# Altium footprint library 弹簧端子.PcbLib: 9 footprints
Each footprint in its own frame and in the unit in brackets; x right, y up, seen from the top. Pads: shape width x height; smd on the part's side, far side on the other; paste and mask are expansions set on the pad; w line width, h text height; cw(c..) or ccw(c..) is an arc to the next point about the centre after c.
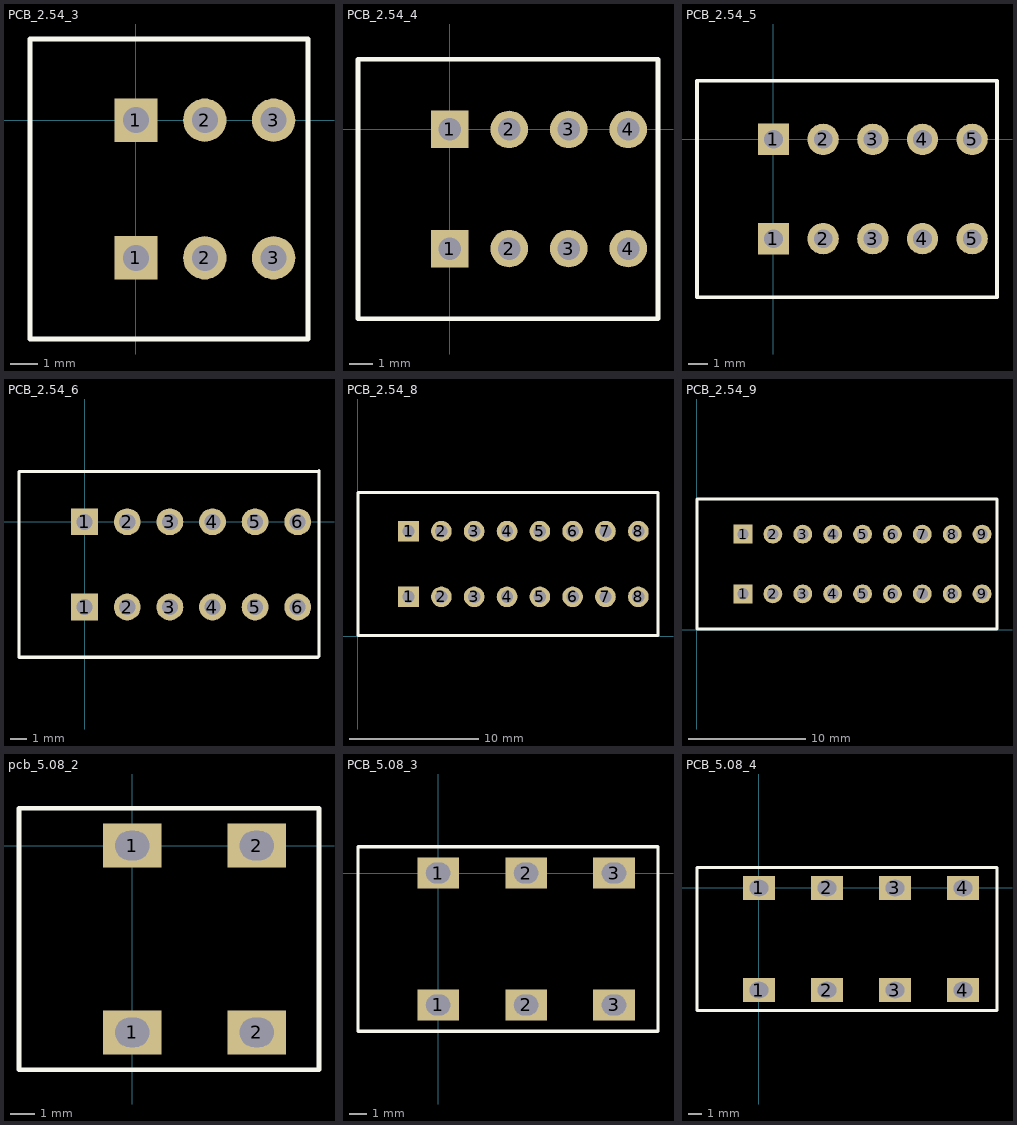
[diagram p0: the footprints below, top view; thin cyan lines are the x and y axes]

## PCB_2.54_3 [mm]
pads (6):
  rect 1.6x1.6 hole 0.96: 1(0,-5.08) 1(0,0)
  round 1.6 hole 0.96: 2(2.54,-5.08) 2(2.54,0) 3(5.08,-5.08) 3(5.08,0)
Top Overlay:
  lines w0.2: -3.912,-8.077 6.35,-8.077 6.35,2.997 -3.912,2.997 -3.912,-8.077

## PCB_2.54_4 [mm]
pads (8):
  rect 1.6x1.6 hole 0.96: 1(0,-5.08) 1(0,0)
  round 1.6 hole 0.96: 2(2.54,-5.08) 2(2.54,0) 3(5.08,-5.08) 3(5.08,0) 4(7.62,-5.08) 4(7.62,0)
Top Overlay:
  lines w0.2: 8.89,2.946 8.89,-8.077 -3.912,-8.077 -3.912,2.997 8.89,2.997

## PCB_2.54_5 [mm]
pads (10):
  rect 1.6x1.6 hole 0.96: 1(0,-5.08) 1(0,0)
  round 1.6 hole 0.96: 2(2.54,-5.08) 2(2.54,0) 3(5.08,-5.08) 3(5.08,0) 4(7.62,-5.08) 4(7.62,0) 5(10.16,-5.08) 5(10.16,0)
Top Overlay:
  lines w0.2: -3.912,-8.077 11.43,-8.077 11.43,2.997 -3.912,2.997 -3.912,-8.077

## PCB_2.54_6 [mm]
pads (12):
  rect 1.6x1.6 hole 0.96: 1(0,-5.08) 1(0,0)
  round 1.6 hole 0.96: 2(2.54,-5.08) 2(2.54,0) 3(5.08,-5.08) 3(5.08,0) 4(7.62,-5.08) 4(7.62,0) 5(10.16,-5.08) 5(10.16,0) 6(12.7,-5.08) 6(12.7,0)
Top Overlay:
  lines w0.2: 13.894,-8.077 11.43,-8.077 -3.912,-8.077 -3.912,2.997 11.43,2.997 13.894,2.997 ; 13.97,-8.026 13.97,3.048

## PCB_2.54_8 [mm]
pads (16):
  rect 1.6x1.6 hole 0.96: 1(3.937,3.048) 1(3.937,8.128)
  round 1.6 hole 0.96: 2(6.477,3.048) 2(6.477,8.128) 3(9.017,3.048) 3(9.017,8.128) 4(11.557,3.048) 4(11.557,8.128) 5(14.097,3.048) 5(14.097,8.128) 6(16.637,3.048) 6(16.637,8.128) 7(19.177,3.048) 7(19.177,8.128) 8(21.717,3.048) 8(21.717,8.128)
Top Overlay:
  lines w0.254: 0.025,0.051 15.367,0.051 23.241,0.051 23.241,11.125 0.025,11.125 0.025,0.051

## PCB_2.54_9 [mm]
pads (18):
  rect 1.6x1.6 hole 0.96: 1(3.937,3.048) 1(3.937,8.128)
  round 1.6 hole 0.96: 2(6.477,3.048) 2(6.477,8.128) 3(9.017,3.048) 3(9.017,8.128) 4(11.557,3.048) 4(11.557,8.128) 5(14.097,3.048) 5(14.097,8.128) 6(16.637,3.048) 6(16.637,8.128) 7(19.177,3.048) 7(19.177,8.128) 8(21.717,3.048) 8(21.717,8.128) 9(24.257,3.048) 9(24.257,8.128)
Top Overlay:
  lines w0.254: 0.025,0.051 15.367,0.051 25.527,0.051 25.527,11.125 0.025,11.125 0.025,0.051

## pcb_5.08_2 [mm]
pads (4):
  rect 2.4x1.8 hole 1.2 slot 1.4 at 0 deg: 1(0,-7.62) 1(0,0) 2(5.08,-7.62) 2(5.08,0)
Top Overlay:
  lines w0.2: -4.623,-9.144 -4.623,1.524 7.62,1.524 7.62,-9.144 -4.623,-9.144

## PCB_5.08_3 [mm]
pads (6):
  rect 2.4x1.8 hole 1.2 slot 1.4 at 0 deg: 1(0,-7.62) 1(0,0) 2(5.08,-7.62) 2(5.08,0) 3(10.16,-7.62) 3(10.16,0)
Top Overlay:
  lines w0.2: -4.623,-9.144 -4.623,1.524 12.7,1.524 12.7,-9.144 -4.623,-9.144

## PCB_5.08_4 [mm]
pads (8):
  rect 2.4x1.8 hole 1.2 slot 1.4 at 0 deg: 1(0,-7.62) 1(0,0) 2(5.08,-7.62) 2(5.08,0) 3(10.16,-7.62) 3(10.16,0) 4(15.24,-7.62) 4(15.24,0)
Top Overlay:
  lines w0.2: -4.623,-9.144 -4.623,1.524 17.78,1.524 17.78,-9.144 -4.623,-9.144